# Altium footprint library INDC100X50X55L25N.PcbLib: 1 footprints
Each footprint in its own frame and in the unit in brackets; x right, y up, seen from the top. Pads: shape width x height; smd on the part's side, far side on the other; paste and mask are expansions set on the pad; w line width, h text height; cw(c..) or ccw(c..) is an arc to the next point about the centre after c.
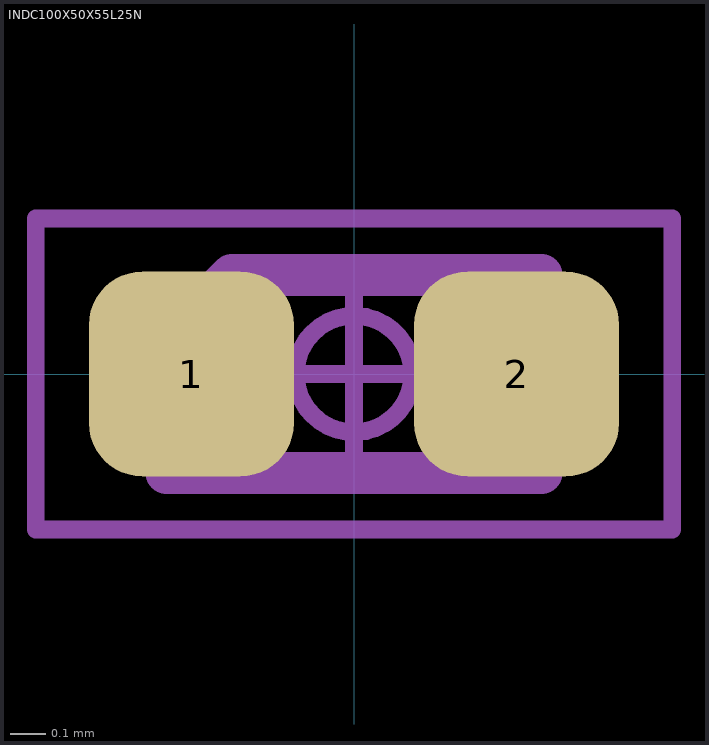
[diagram p0: the footprint, top view; thin cyan lines are the x and y axes]

## INDC100X50X55L25N [mm] "Inductor, Chip; 1.00 mm L X 0.50 mm W X 0.55 mm H body"
height 0.55
pads (2):
  rrect52% 0.58x0.58 smd: 1(-0.46,0) 2(0.46,0)
Mechanical 3:
  lines w0.12: -0.53,-0.28 -0.53,0.095 -0.345,0.28 0.53,0.28 0.53,-0.28 -0.53,-0.28
Mechanical 5:
  lines w0.025: -0.5,-0.25 0.5,-0.25 ; -0.5,-0.25 -0.5,0.25 ; -0.5,-0.25 -0.5,0.25 ; -0.5,-0.25 -0.25,-0.25 -0.25,0.25 -0.5,0.25 ; -0.5,0.25 0.5,0.25 ; 0.5,-0.25 0.5,0.25 ; 0.5,-0.25 0.25,-0.25 0.25,0.25 0.5,0.25 ; 0.5,-0.25 0.5,0.25
Mechanical 7:
  circle w0.05: c0,0 r0.165
  lines w0.05: -0.22,0 0.22,0 ; 0,-0.22 0,0.22 ; -0.9,-0.44 0.9,-0.44 0.9,0.44 -0.9,0.44 -0.9,-0.44
Mechanical 9:
  text "'.Designator'" at -3.429,-0.508 h1
3D body: height 0.1, standoff 0, extent -0.9,-0.44 0.9,0.44
3D body "INDC100X50X55L25.STEP": height 0.55, standoff 0, extent -0.5,-0.25 0.5,0.25
3D body: height 1.04, standoff 0, extent -0.9,-0.44 0.9,0.44